# Altium footprint library MOV_10DXXXK.PcbLib: 1 footprints
Each footprint in its own frame and in the unit in brackets; x right, y up, seen from the top. Pads: shape width x height; smd on the part's side, far side on the other; paste and mask are expansions set on the pad; w line width, h text height; cw(c..) or ccw(c..) is an arc to the next point about the centre after c.
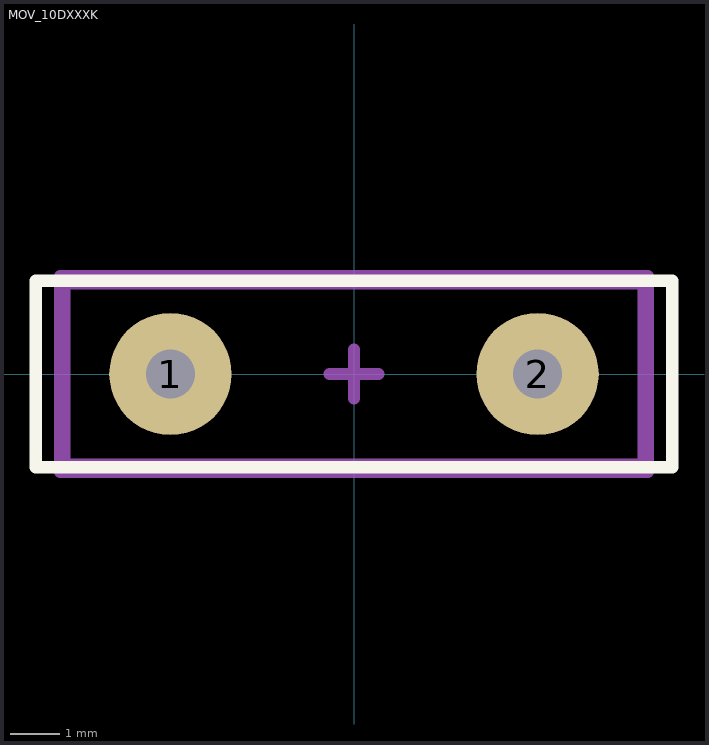
[diagram p0: the footprint, top view; thin cyan lines are the x and y axes]

## MOV_10DXXXK [mm]
pads (2):
  round 2.5 hole 1: 1(-3.75,0) 2(3.75,0)
Top Overlay:
  lines w0.254: -6.5,-1.905 -6.5,1.905 6.5,1.905 6.5,-1.905 -6.5,-1.905
Top Assembly:
  lines w0.1: -5.842,-1.778 5.842,-1.778 5.842,1.778 -5.842,1.778 -5.842,-1.778
Top Courtyard:
  lines w0.254: -0.5,0 0.5,0 ; 0,-0.5 0,0.5 ; -6,-2 -6,2 6,2 6,-2 -6,-2
3D body "User Library-S14K25 MOV.step": height 18.5, standoff -3, extent -8.021,-3.728 8.021,3.728